# Altium schematic symbol library LinearRegulator.SchLib: 10 symbols
Pins are listed as number, name and electrical type; pins without a type are passive.

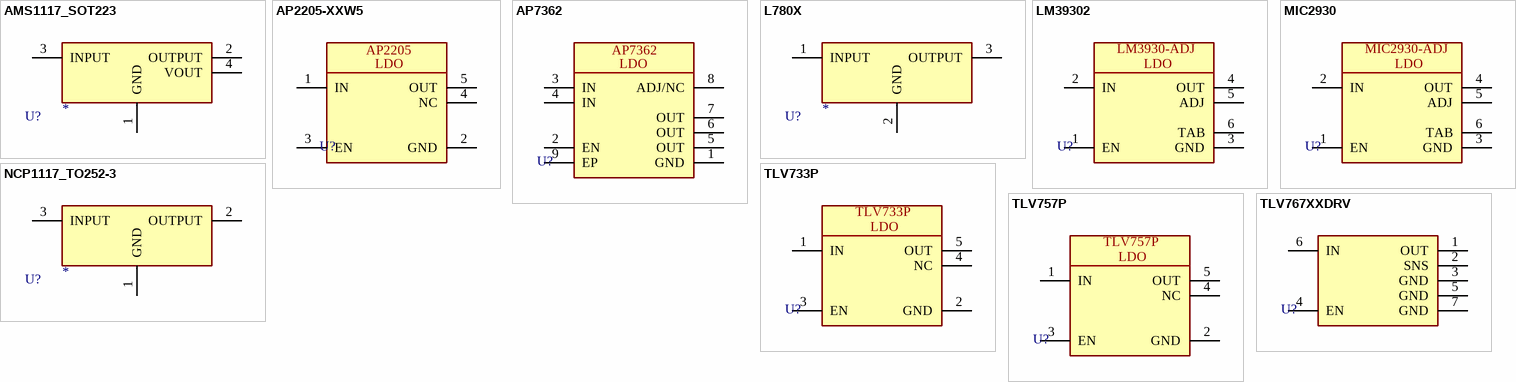
[diagram p0: symbols AMS1117_SOT223 to TLV767XXDRV]

## AMS1117_SOT223
designator U?, comment ERP_123-1  (value not drawn)
AMS1117 LDO; Supplier  Part Number 1: *; Supplier  1: *; Package: SOT223; Manufacturer Part Number 1: *; Manufacturer 1: *; ERP: *; Value: *
footprint AMS1117_SOT223
pins: 1 GND (power), 2 OUTPUT, 3 INPUT, 4 VOUT

## AP2205-XXW5
designator U?
-40℃~+125℃@(Tj) 1 200mA 24V 3.3V 30uVrms 460mV@(100mA) 500uA 60dB@(1kHz) Fixed Over Current Protection Positive SOT-25 Voltage Regulators - Linear, Low Drop Out (LDO) Regulators ROHS; Manufacturer 1: Diodes Incorporated; Manufacturer Part Number 1: *; Package: SOT-25; Supplier Part Number 1: *; Supplier 1: *
footprint AP2205-XXW5
pins: 1 IN, 2 GND, 3 EN, 4 NC, 5 OUT
text: AP2205; LDO

## AP7362
designator U?
-40℃~+125℃@(Tj) 1 1.5A 240mV@(1.5A) 3.3V 5.5V 500uA 65dB@(120Hz) 90uVrms Fixed Over Current Protection Positive SO-8-EP Voltage Regulators - Linear, Low Drop Out (LDO) Regulators ROHS; Manufacturer Part Number 1: *; Manufacturer 1: *; Supplier 1: *; Supplier Part Number 1: *; Package: *
footprint AP7362 SO8
pins: 1 GND, 2 EN, 3 IN, 4 IN, 5 OUT, 6 OUT, 7 OUT, 8 ADJ/NC, 9 EP
text: LDO

## L780X
designator U?
IC REG LINEAR 1.5A; Manufacturer 1: STMicroelectronics; Manufacturer Part Number 1: *; Value: *
footprint L78_D2PAK (IC REG LINEAR 1.5A D2PAK)
pins: 1 INPUT, 2 GND (power), 3 OUTPUT

## LM39302
designator U?
LM39302R HTC TO263 - Adjustable 3A Low-Voltage Low-Dropout Regulator; Manufacturer Part Number 1: *; Manufacturer 1: *; Value: *
footprint DPAK170P1491X483-6N (D2-PAK, 6-Pads, Body 7.93x8.69mm (max), IPC Medium Density)
pins: 1 EN, 2 IN, 3 GND, 4 OUT, 5 ADJ, 6 TAB
text: LM3930-ADJ; LDO

## MIC2930
designator U?
Linear Voltage Regulator IC Positive Adjustable 1 Output 3A TO-263-5; Manufacturer Part Number 1: *; Manufacturer 1: *; Value: *
footprint DPAK170P1491X483-6N (D2-PAK, 6-Pads, Body 7.93x8.69mm (max), IPC Medium Density)
pins: 1 EN, 2 IN, 3 GND, 4 OUT, 5 ADJ, 6 TAB
text: MIC2930-ADJ; LDO

## NCP1117_TO252-3
designator U?, comment ERP_123-1  (value not drawn)
NCP1117 LDO; Supplier  Part Number 1: *; Supplier  1: *; Package: *; Manufacturer Part Number 1: *; Manufacturer 1: *; ERP: *; Value: *
footprint NCP1117_TO252-3
pins: 1 GND (power), 2 OUTPUT, 3 INPUT

## TLV733P
designator U?
-40℃~+125℃@(Tj) 1 1.1V 120uVrms 125mV@(300mA) 300mA 34uA 5.5V 50dB@(1kHz) Fixed Over Current Protection Positive SOT-23-5 Voltage Regulators - Linear, Low Drop Out (LDO) Regulators ROHS; Manufacturer Part Number 1: Texas Instruments; Manufacturer 1: *; Package: *; Supplier Part Number 1: *; Supplier 1: *
footprint SOT95P280X145-5L (SOT23, 5-Leads, Body 2.90x2.80mm, Pitch 0.95mm, IPC High Density)
pins: 1 IN, 2 GND, 3 EN, 4 NC, 5 OUT
text: LDO

## TLV757P
designator U?
Fixed Positive Under Voltage Lockout SOT-23-5 Voltage Regulators - Linear, Low Drop Out (LDO) Regulators ROHS; Manufacturer Part Number 1: Texas Instruments; Manufacturer 1: *; Package: *; Supplier Part Number 1: *; Supplier 1: *
footprint DBV Package (SOT23, 5-Leads, Body 2.90x2.80mm, Pitch 0.95mm, IPC Medium Density)
pins: 1 IN, 2 GND, 3 EN, 4 NC, 5 OUT
text: LDO

## TLV767XXDRV
designator U?
IC REG LINEAR; Manufacturer Part Number 1: *; Manufacturer 1: *; Value: *
footprint TLV767XXDRV
pins: 1 OUT, 2 SNS, 3 GND, 4 EN, 5 GND, 6 IN, 7 GND